# Altium schematic symbol library SwitchesButtons.SchLib: 3 symbols
Pins are listed as number, name and electrical type; pins without a type are passive.

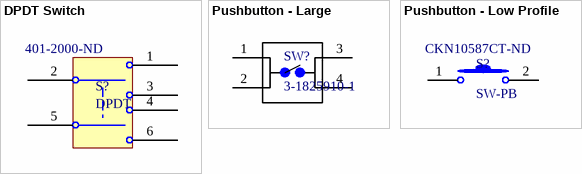
[diagram p0: symbols DPDT Switch to Pushbutton - Low Profile]

## DPDT Switch
designator S?, comment DPDT  Supplier Part Number 1: 401-2000-ND
DPDT Switch, customized for the pinout of the JS202011AQN switch.; Supplier 1: Digi-Key
footprint JS202011AQN - Slide Switch
pins: 1 POLE1A, 2 POLE1, 3 POLE1B, 4 POLE2A, 5 POLE2, 6 POLE2B

## Pushbutton - Large
designator SW?, comment 3-1825910-1
Schematic symbol for a generic 4-pin pushbutton (duplicate pins). Larger in size, used for System PCB reset.
footprint Pushbutton - Large - 5-1437565-0
pins: 1, 2, 3, 4

## Pushbutton - Low Profile
designator S?, comment SW-PB  Supplier Part Number 1: CKN10587CT-ND
Schematic symbol for a generic 2-pin pushbutton, OFF-mom.; Supplier 1: Digi-Key
footprint PTS830GM140 SMTR LFS - Pushbutton (Low profile pushbutton)
pins: 1, 2